# EAGLE library part TRANS_RING25MM_3WINGS (library __MyCommonLib1)
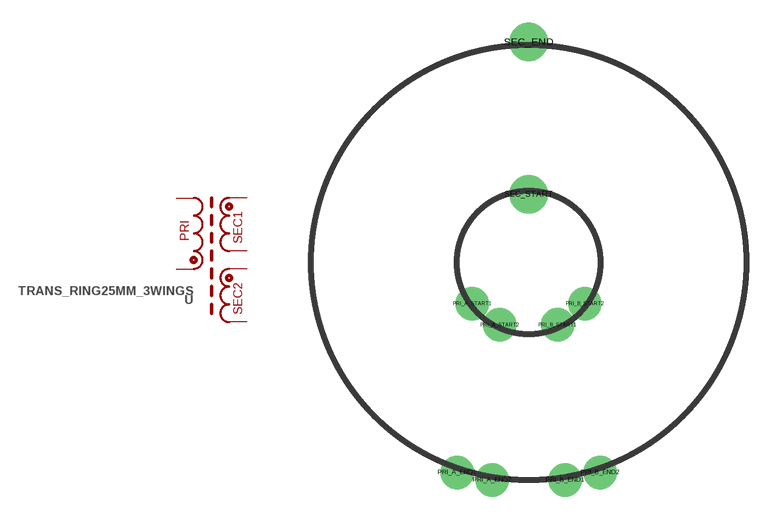
[diagram p22: symbol with the pads of RING_TRANSF_30X9_3WINGS; footprint RING_TRANSF_30X9_3WINGS]

Designator prefix -

## TRANS_RING25MM_3WINGSHOR  [RING_TRANSF_30X9_3WINGS]
PRI_A_END1  SEC1_END
PRI_A_END2  SEC1_END
PRI_A_START1  SEC1_START
PRI_A_START2  SEC1_START
PRI_B_END1  SEC2_END
PRI_B_END2  SEC2_END
PRI_B_START1  SEC2_START
PRI_B_START2  SEC2_START
SEC_END  PRI_END
SEC_START  PRI_START

## Footprint RING_TRANSF_30X9_3WINGS (pad centres in mm)
drill 0.9 pad 2.2: PRI_A_END1 -4.7,-13.8; PRI_A_END2 -2.4,-14.3; PRI_A_START1 -3.7,-2.7; PRI_A_START2 -1.9,-4.1; PRI_B_END1 2.4,-14.3; PRI_B_END2 4.7,-13.8; PRI_B_START1 1.9,-4.1; PRI_B_START2 3.7,-2.7
drill 0.7 pad 2.54: SEC_END 0,14.5; SEC_START 0,4.5